# Altium schematic symbol library Semiconductor_Discretes.SchLib: 11 symbols
Pins are listed as number, name and electrical type; pins without a type are passive.

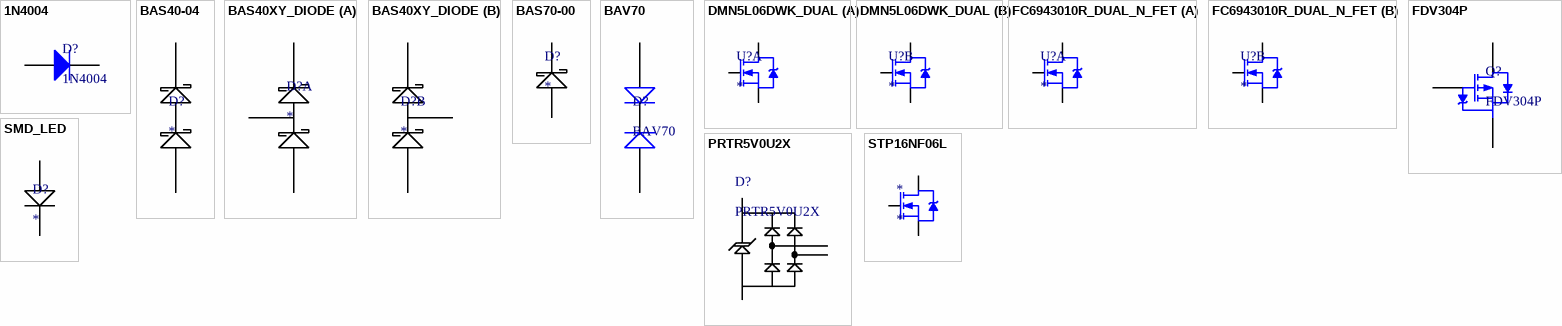
[diagram p0: symbols 1N4004 to STP16NF06L]

## 1N4004
designator D?
Standard Diode, 400V block; PartNumber: 1N4004; Supplier 1: Farnell; Supplier Part Number 1: 2295710
footprint D_1N4004_AX
pins: 1 A, 2 K

## BAS40-04
designator D?
Dual series diode
footprint SOT23-3 (SOT23, 3-Leads, Body 2.90x2.45mm, Pitch 0.95mm, IPC Medium Density)
pins: 1, 2, 3

## BAS40XY_DIODE
designator D?
BAS40XY
part A pins: 1, 2, 6
part B pins: 3, 4, 5

## BAS70-00
designator D?
Schottky diode
footprint SOT23-3 (SOT23, 3-Leads, Body 2.90x2.45mm, Pitch 0.95mm, IPC Medium Density)
pins: 1, 3

## BAV70
designator D?
Dual diode, common cathode; PartNumber: BAV70
footprint SOT23-3 (SOT23, 3-Leads, Body 2.90x2.45mm, Pitch 0.95mm, IPC Medium Density)
pins: 1, 2, 3

## DMN5L06DWK_DUAL
designator U?
Dual N-type MOSFET
footprint SOT363-6N (SOT23, 6-Leads, Body 2.00x2.10mm, Pitch 0.65mm, IPC Medium Density)
part A pins: 1 S1, 2 G1, 6 D1
part B pins: 3 D2, 4 S2, 5 G2

## FC6943010R_DUAL_N_FET
designator U?
Dual N-type MOSFET
footprint SOT666N (SOT23, 6-Leads, Body 1.60x1.60mm, Pitch 0.50mm, IPC Medium Density)
part A pins: 1 S1, 2 G1, 6 D1
part B pins: 3 D2, 4 S2, 5 G2

## FDV304P
designator Q?
Digital FET, P-channel; Manufacturer: Fairchild Semiconductor; PartNumber: FDV304P
footprint SOT23-3 (SOT23, 3-Leads, Body 2.90x2.45mm, Pitch 0.95mm, IPC Medium Density); pin to pad D>3 G>1 S>2
pins: D, G, S

## PRTR5V0U2X
designator D?
Ultra low capacitance double rail-to-rail ESD protection diode; PartNumber: PRTR5V0U2X
footprint SOT143B
pins: 1, 2, 3, 4

## SMD_LED
designator D?
SMD LED
footprint LED0805 (Chip Capacitor, 2-Leads, Body 2.00x1.25mm, IPC Medium Density)
footprint LED0603 (Chip Capacitor, 2-Leads, Body 1.55x0.80mm, IPC Medium Density)
pins: 1 A, 2 K

## STP16NF06L
designator *
footprint TO220_N (TO220 Transistor case)
pins: 1 G, 2 D, 3 S